# Altium schematic symbol library MC2016Z.Schlib: 1 symbol
Pins are listed as number, name and electrical type; pins without a type are passive.

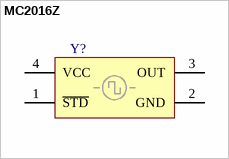
[diagram p0: symbol MC2016Z]

## MC2016Z
designator Y?
Oscillator
pins: 1 ~{STD}, 2 GND, 3 OUT, 4 VCC